# EAGLE library part 74VH14_INVERTER (library ecad(1))
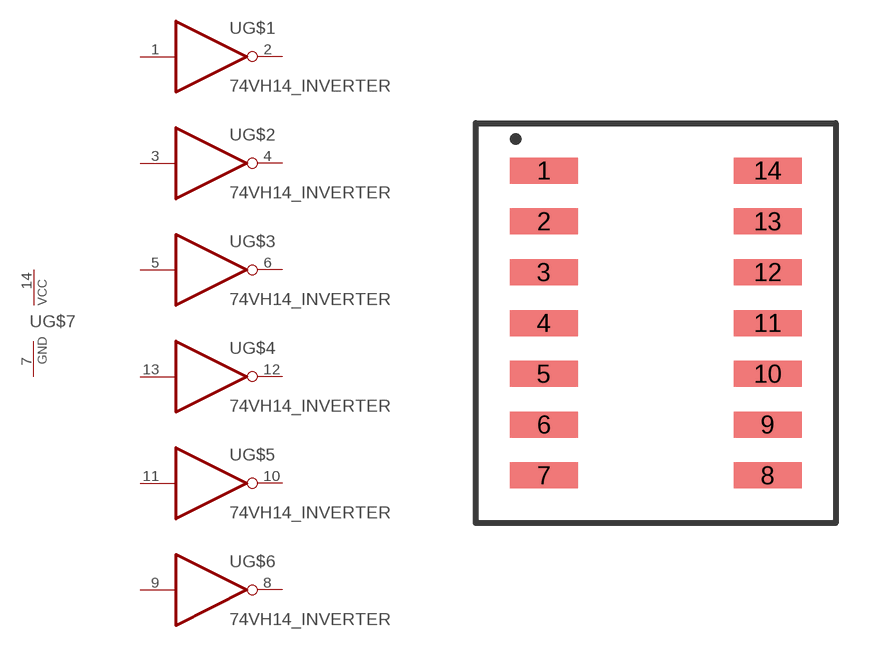
[diagram p0: symbol with the pads of 14-TSSOP; footprint 14-TSSOP]

Designator prefix U; gates G$1=14_PIN_INVERTER G$2=14_PIN_INVERTER G$3=14_PIN_INVERTER G$4=14_PIN_INVERTER G$5=14_PIN_INVERTER G$6=14_PIN_INVERTER G$7=PWRN

## 74VH14_INVERTER  [14-TSSOP]
1  G$1:I  pas
2  G$1:O  pas
3  G$2:I  pas
4  G$2:O  pas
5  G$3:I  pas
6  G$3:O  pas
7  G$7:GND  pwr
8  G$6:O  pas
9  G$6:I  pas
10  G$5:O  pas
11  G$5:I  pas
12  G$4:O  pas
13  G$4:I  pas
14  G$7:VCC  pwr

## Footprint 14-TSSOP (pad centres in mm)
smd 1.7 x 0.65: 1 -2.8,3.81; 2 -2.8,2.54; 3 -2.8,1.27; 4 -2.8,0; 5 -2.8,-1.27; 6 -2.8,-2.54; 7 -2.8,-3.81; 8 2.8,-3.81; 9 2.8,-2.54; 10 2.8,-1.27; 11 2.8,0; 12 2.8,1.27; 13 2.8,2.54; 14 2.8,3.81